# Altium schematic symbol library TLV62569.SchLib: 1 symbol
Pins are listed as number, name and electrical type; pins without a type are passive.

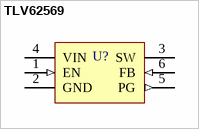
[diagram p0: symbol TLV62569]

## TLV62569
designator U?  (value not drawn)
IC REG BUCK ADJ 2A TSOT23-6
pins: 1 EN (in), 2 GND (power), 3 SW (power), 4 VIN (power), 5 PG (out), 6 FB (in)